# Altium footprint library IM_v1.0.PcbLib: 78 footprints (part 1 of 5)
Each footprint in its own frame and in the unit in brackets; x right, y up, seen from the top. Pads: shape width x height; smd on the part's side, far side on the other; paste and mask are expansions set on the pad; w line width, h text height; cw(c..) or ccw(c..) is an arc to the next point about the centre after c.
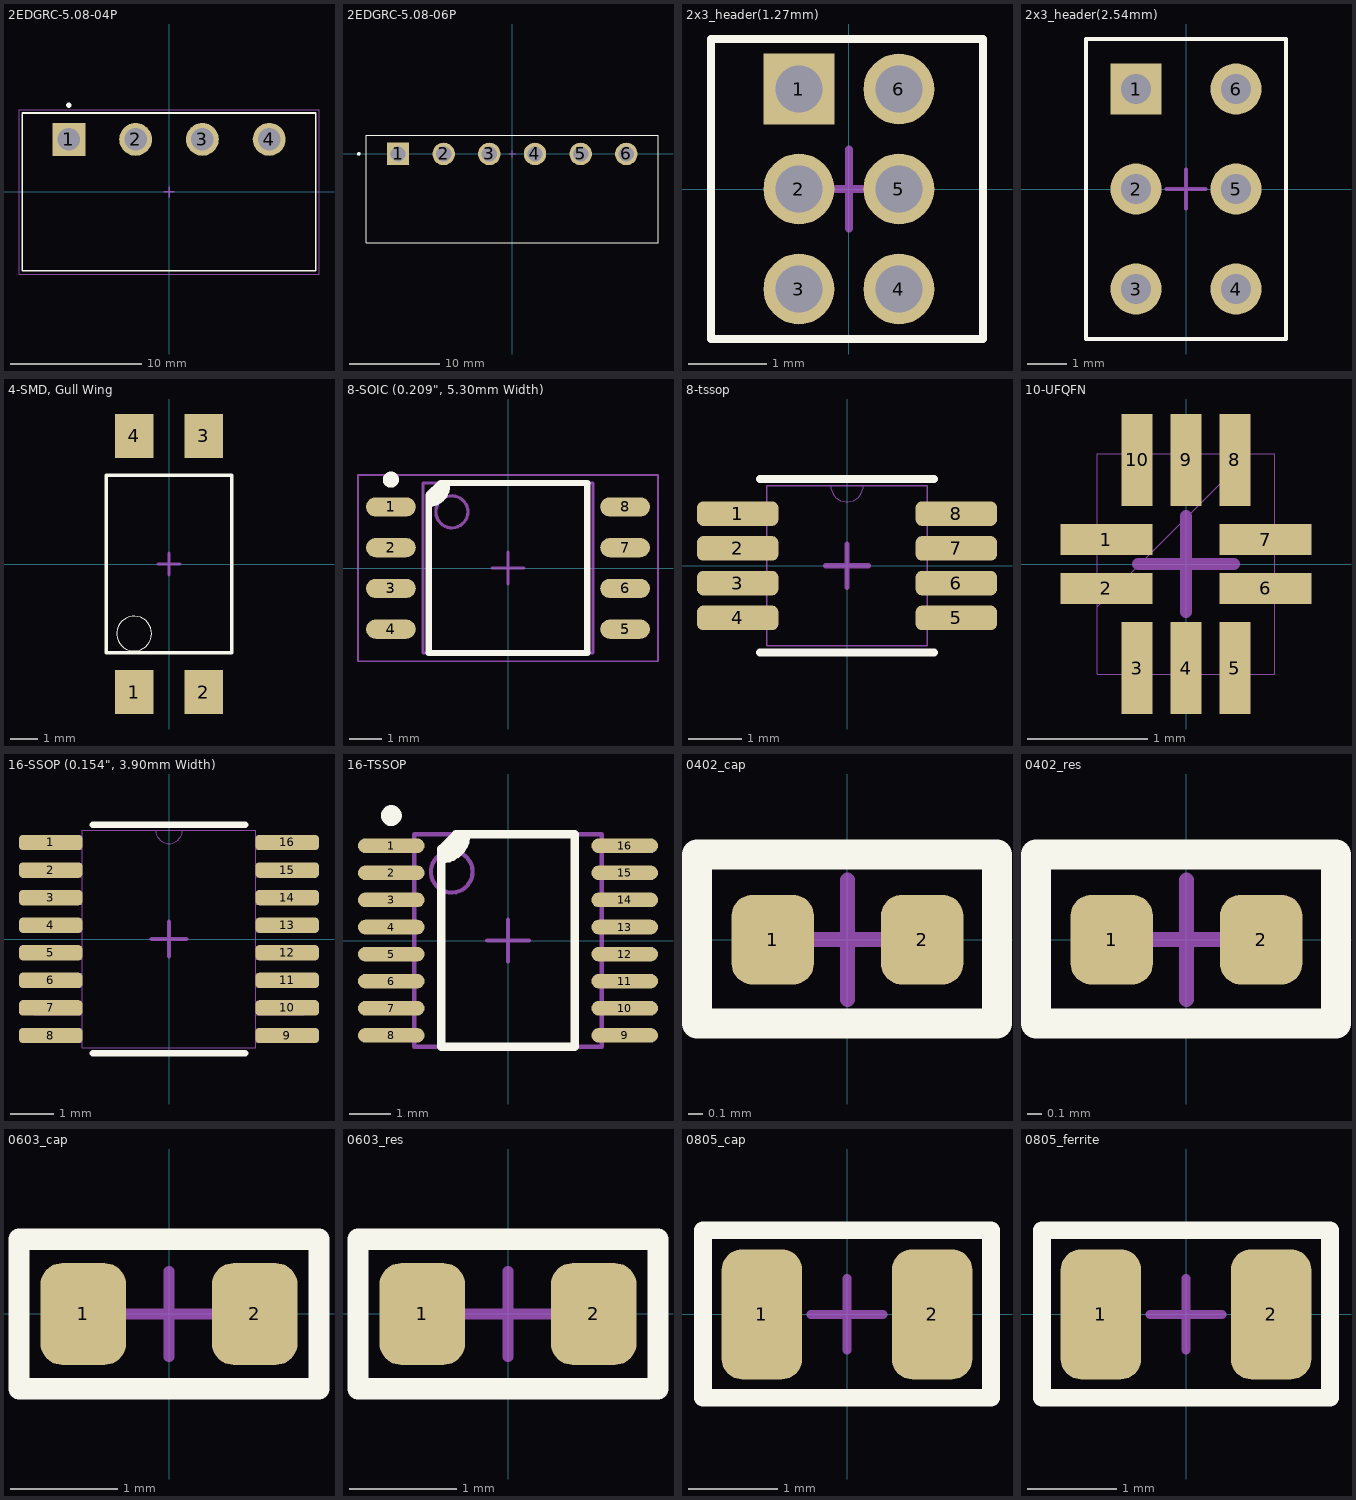
[diagram p0: the footprints below, top view; thin cyan lines are the x and y axes]

## 2EDGRC-5.08-04P [mm]
pads (4):
  rect 2.5x2.5 hole 1.7: 1(-7.62,4)
  round 2.5 hole 1.7: 2(-2.54,4) 3(2.54,4) 4(7.62,4)
Top Overlay:
  circle w0.2: c-7.62,6.6 r0.1
  lines w0.127: -11.16,-6 11.16,-6 11.16,6 -11.16,6 -11.16,-6
Mechanical 7:
  lines w0.05: -11.41,-6.25 11.41,-6.25 11.41,6.25 -11.41,6.25 -11.41,-6.25
  lines w0.1: -0.4,0 0,0 ; 0,-0.4 0,0 ; 0,0.4 0,0 ; 0.4,0 0,0
3D body "2EDGRC-5.08-04P-14-100A&Z(H).stp": height 8.61, standoff -3.09, extent -11.16,-6.031 11.16,5.969

## 2EDGRC-5.08-06P [mm]
pads (6):
  rect 2.5x2.5 hole 1.7: 1(-12.7,0)
  round 2.5 hole 1.7: 2(-7.62,0) 3(-2.54,0) 4(2.54,0) 5(7.62,0) 6(12.7,0)
Top Overlay:
  circle w0.2: c-17.05,0 r0.1
  lines w0.1: -16.256,-9.9 16.224,-9.9 ; -16.256,2.1 16.224,2.1
  lines w0.127: -16.256,-9.9 -16.256,2.1 ; 16.224,-9.9 16.224,2.1
Route Tool Path (Mech13):
  circle w0.2: c-17.05,0 r0.1
Mechanical 7:
  lines w0.1: -0.4,0 0,0 ; 0,-0.4 0,0 ; 0,0.4 0,0 ; 0.4,0 0,0
3D body "2EDGRC-5.08-06P-14-100A&Z(H).stp": height 8.61, standoff -3.09, extent -16.256,-9.9 16.224,2.1

## 2x3_header(1.27mm) [mm]
pads (6):
  rect 0.9x0.9 hole 0.6: 1(-0.635,1.27)
  round 0.9 hole 0.6: 2(-0.635,0) 3(-0.635,-1.27) 4(0.635,-1.27) 5(0.635,0) 6(0.635,1.27)
Top Overlay:
  lines w0.1: -1.75,-1.905 1.7,-1.905 1.7,1.905 -1.75,1.905 -1.75,-1.905
Mechanical 7:
  lines w0.1: -0.5,0 0.5,0 ; 0,-0.5 0,0.5
3D body "HPH2-A-06-UA.STEP": height 4, standoff -2.3, extent -1.75,-1.905 1.7,1.905

## 2x3_header(2.54mm) [mm]
pads (6):
  rect 1.3x1.3 hole 0.762: 1(-1.27,2.54)
  round 1.3 hole 0.762: 2(-1.27,0) 3(-1.27,-2.54) 4(1.27,-2.54) 5(1.27,0) 6(1.27,2.54)
Top Overlay:
  lines w0.1: -2.54,-3.81 -2.54,3.81 2.54,3.81 2.54,-3.81 -2.54,-3.81
Mechanical 7:
  lines w0.1: -0.5,0 0.5,0 ; 0,-0.5 0,0.5
3D body "Download_STP_61300621121_rev1.stp": height 8.57, standoff -2.97, extent -2.54,-3.81 2.54,3.81

## 4-SMD, Gull Wing [mm]
pads (4):
  rect 1.4x1.6 smd: 1(-1.27,-4.68) 2(1.27,-4.68) 3(1.27,4.68) 4(-1.27,4.68)
Top Overlay:
  circle w0: c-1.27,-2.54 r0.635
  lines w0.127: -2.3,-3.25 -2.3,3.25 2.3,3.25 2.3,-3.25 -2.3,-3.25
Mechanical 7:
  lines w0.1: -0.4,0 0,0 ; 0,-0.4 0,0 ; 0,0.4 0,0 ; 0.4,0 0,0
3D body "LTV-816S.STEP": height 4.6, standoff 0, extent -2.3,-5.08 2.3,5.08

## 8-SOIC (0.209", 5.30mm Width) [mm]
height 2.16
pads (8):
  oval 1.55x0.6 smd: 1(-3.65,1.905) 2(-3.65,0.635) 3(-3.65,-0.635) 4(-3.65,-1.905) 5(3.65,-1.905) 6(3.65,-0.635) 7(3.65,0.635) 8(3.65,1.905)
Top Overlay:
  circle w0.25: c-3.65,2.755 r0.125
  region: -2.1,2.65 -1.9,2.65 -1.9,2.575 -1.9,2.461 -1.988,2.249 -2.149,2.088 -2.361,2 -2.475,2 -2.475,2.275
  lines w0.2: -2.475,2 ccw(c-2.475,2.575) -1.9,2.575 ; -2.475,-2.65 2.475,-2.65 2.475,2.65 -2.1,2.65 -2.475,2.275 -2.475,-2.65
Mechanical 13:
  lines w0.1: -2.65,-2.65 2.65,-2.65 2.65,2.65 -2.65,2.65 -2.65,-2.65
Route Tool Path (Mech13):
  circle w0.1: c-1.75,1.75 r0.5
Mechanical 7:
  lines w0.05: -4.675,-2.9 4.675,-2.9 4.675,2.9 -4.675,2.9 -4.675,-2.9
  lines w0.1: -0.5,0 0.5,0 ; 0,-0.5 0,0.5
3D body "SO-8 208mil.STEP": height 1.5, standoff 0, extent -4.014,-2.641 4.014,2.642

## 8-tssop [mil]
pads (8):
  rrect50% 60x18 smd paste+0 mask+0: 1(-80.5,38.39) 2(-80.5,12.8) 3(-80.5,-12.8) 4(-80.5,-38.39) 5(80.5,-38.39) 6(80.5,-12.8) 7(80.5,12.8) 8(80.5,38.39)
Top Overlay:
  lines w6: -64,-64 64,-64 ; -64,64 64,64
Mechanical 13:
  lines w0: -12,59 ccw(c0,59) 12,59
  lines w1: -96.5,-46.39 -96.5,-30.39 -59,-30.39 -59,-46.39 -96.5,-46.39 ; -96.5,-20.8 -59,-20.8 -59,-4.8 -96.5,-4.8 -96.5,-20.8 ; -96.5,4.8 -96.5,20.8 -59,20.8 -59,4.8 -96.5,4.8 ; -96.5,30.39 -96.5,46.39 -59,46.39 -59,30.39 -96.5,30.39 ; -59,-59 59,-59 59,59 -59,59 -59,-59 ; 59,-46.39 96.5,-46.39 96.5,-30.39 59,-30.39 59,-46.39 ; 59,-20.8 59,-4.8 96.5,-4.8 96.5,-20.8 59,-20.8 ; 59,4.8 96.5,4.8 96.5,20.8 59,20.8 59,4.8 ; 59,30.39 59,46.39 96.5,46.39 96.5,30.39 59,30.39
Mechanical 7:
  lines w3.94: -15.75,0 0,0 ; 0,-15.75 0,0 ; 0,15.75 0,0 ; 15.75,0 0,0
3D body "MSOP8_MC_MCH.step": height 43.11, standoff 0, extent -96.5,-59.02 96.5,59.02

## 10-UFQFN [mil]
pads (10):
  rect 30x10 smd: 1(-26,8) 2(-26,-8) 6(26,-8) 7(26,8)
  rect 10x30 smd: 3(-16,-34) 4(0,-34) 5(16,-34) 8(16,34) 9(0,34) 10(-16,34)
Mechanical 13:
  lines w0: -29,-14 21,36 11,36 ; -29,-13 -29,-3 ; -29,3 -29,13 ; -21,-36 -11,-36 ; -21,36 -11,36 ; -5,-36 5,-36 ; -5,36 5,36 ; 11,-36 21,-36 ; 29,-13 29,-3 ; 29,3 29,13 ; -29,-36 29,-36 29,36 -29,36 -29,-36
Mechanical 7:
  lines w3.94: -15.75,0 0,0 ; 0,-15.75 0,0 ; 0,15.75 0,0 ; 15.75,0 0,0
3D body "step_temp.STEP": height 21.65, standoff 0, extent -27.56,-35.43 27.56,35.43

## 16-SSOP (0.154", 3.90mm Width) [mil]
pads (16):
  rrect50% 57.5x14 smd: 1(-107.25,87.5) 2(-107.25,62.5) 3(-107.25,37.5) 4(-107.25,12.5) 5(-107.25,-12.5) 6(-107.25,-37.5) 7(-107.25,-62.5) 8(-107.25,-87.5) 9(107.25,-87.5) 10(107.25,-62.5) 11(107.25,-37.5) 12(107.25,-12.5) 13(107.25,12.5) 14(107.25,37.5) 15(107.25,62.5) 16(107.25,87.5)
Top Overlay:
  lines w6: -68.98,-103.5 68.98,-103.5 ; -68.98,103.5 68.98,103.5
Mechanical 13:
  lines w0: -12,98.5 ccw(c0,98.5) 12,98.5
  lines w1: -122,-93.5 -122,-81.5 -78.5,-81.5 -78.5,-93.5 -122,-93.5 ; -122,-68.5 -78.5,-68.5 -78.5,-56.5 -122,-56.5 -122,-68.5 ; -122,-43.5 -122,-31.5 -78.5,-31.5 -78.5,-43.5 -122,-43.5 ; -122,-18.5 -122,-6.5 -78.5,-6.5 -78.5,-18.5 -122,-18.5 ; -122,6.5 -78.5,6.5 -78.5,18.5 -122,18.5 -122,6.5 ; -122,31.5 -122,43.5 -78.5,43.5 -78.5,31.5 -122,31.5 ; -122,56.5 -122,68.5 -78.5,68.5 -78.5,56.5 -122,56.5 ; -122,81.5 -78.5,81.5 -78.5,93.5 -122,93.5 -122,81.5 ; -78.5,-98.5 -78.5,98.5 78.5,98.5 78.5,-98.5 -78.5,-98.5 ; 78.5,-93.5 122,-93.5 122,-81.5 78.5,-81.5 78.5,-93.5 ; 78.5,-68.5 78.5,-56.5 122,-56.5 122,-68.5 78.5,-68.5 ; 78.5,-43.5 78.5,-31.5 122,-31.5 122,-43.5 78.5,-43.5 ; 78.5,-18.5 78.5,-6.5 122,-6.5 122,-18.5 78.5,-18.5 ; 78.5,6.5 78.5,18.5 122,18.5 122,6.5 78.5,6.5 ; 78.5,31.5 78.5,43.5 122,43.5 122,31.5 78.5,31.5 ; 78.5,56.5 78.5,68.5 122,68.5 122,56.5 78.5,56.5 ; 78.5,81.5 78.5,93.5 122,93.5 122,81.5 78.5,81.5
Mechanical 7:
  lines w3.94: -15.75,0 0,0 ; 0,-15.75 0,0 ; 0,15.75 0,0 ; 15.75,0 0,0
3D body "SSOP16_DBQ_TEX.step": height 69.09, standoff 0, extent -122.01,-98.5 122.01,98.5

## 16-TSSOP [mm] "TSSOP, 16-Leads, Body 5.00x4.40mm, Pitch 0.65mm, IPC Medium Density"
height 1.2
pads (16):
  oval 1.6x0.35 smd: 1(-2.8,2.275) 2(-2.8,1.625) 3(-2.8,0.975) 4(-2.8,0.325) 5(-2.8,-0.325) 6(-2.8,-0.975) 7(-2.8,-1.625) 8(-2.8,-2.275) 9(2.8,-2.275) 10(2.8,-1.625) 11(2.8,-0.975) 12(2.8,-0.325) 13(2.8,0.325) 14(2.8,0.975) 15(2.8,1.625) 16(2.8,2.275)
Top Overlay:
  circle w0.25: c-2.8,3 r0.125
  region: -1.6,1.95 -1.481,1.95 -1.26,2.041 -1.091,2.21 -1,2.431 -1,2.55 -1.3,2.55 -1.6,2.25
  lines w0.2: -1.6,1.95 ccw(c-1.6,2.55) -1,2.55 ; -1.6,-2.55 -1.6,2.2 -1.25,2.55 1.6,2.55 1.6,-2.55 -1.6,-2.55
Mechanical 13:
  lines w0.1: -2.25,-2.55 2.25,-2.55 2.25,2.55 -2.25,2.55 -2.25,-2.55
Route Tool Path (Mech13):
  circle w0.1: c-1.35,1.65 r0.5
Mechanical 7:
  lines w0.1: -0.5,0 0.5,0 ; 0,-0.5 0,0.5
3D body "TSSOP-16-TI-PW.STEP": height 1.2, standoff 0, extent -3.21,-2.5 3.211,2.5

## 0402_cap [mm]
pads (2):
  rrect50% 0.55x0.6 smd: 1(-0.5,0) 2(0.5,0)
Top Overlay:
  lines w0.2: -1.006,-0.562 -1.006,0.571 1.001,0.571 1.001,-0.562 -1.006,-0.562
Mechanical 7:
  lines w0.1: -0.4,0 0,0 ; 0,-0.4 0,0 ; 0,0.4 0,0 ; 0.4,0 0,0
3D body "CAP 0402.STEP": height 0.52, standoff 0, extent -0.5,-0.262 0.5,0.262

## 0402_res [mm]
pads (2):
  rrect50% 0.55x0.6 smd: 1(-0.5,0) 2(0.5,0)
Top Overlay:
  lines w0.2: -1.006,-0.562 -1.006,0.571 1.001,0.571 1.001,-0.562 -1.006,-0.562
Mechanical 7:
  lines w0.1: -0.4,0 0,0 ; 0,-0.4 0,0 ; 0,0.4 0,0 ; 0.4,0 0,0
3D body "RES 0402.STEP": height 0.35, standoff 0, extent -0.5,-0.25 0.5,0.25

## 0603_cap [mm]
pads (2):
  rrect50% 0.8x0.95 smd: 1(-0.8,0) 2(0.8,0)
Top Overlay:
  lines w0.2: -1.4,-0.698 -1.4,0.698 1.4,0.698 1.4,-0.698 -1.4,-0.698
Mechanical 7:
  lines w0.1: -0.4,0 0,0 ; 0,-0.4 0,0 ; 0.4,0 0,0 ; 0,0 0,0.4 0,0
3D body "CAP 0603.STEP": height 0.82, standoff 0, extent -0.8,-0.412 0.8,0.412

## 0603_res [mm]
pads (2):
  rrect50% 0.8x0.95 smd: 1(-0.8,0) 2(0.8,0)
Top Overlay:
  lines w0.2: -1.4,-0.698 1.4,-0.698 1.4,0.698 -1.4,0.698 -1.4,-0.698
Mechanical 7:
  lines w0.1: -0.4,0 0,0 ; 0,-0.4 0,0 ; 0.4,0 0,0 ; 0,0 0,0.4 0,0
3D body "RES 0603.STEP": height 0.45, standoff 0, extent -0.8,-0.4 0.8,0.4

## 0805_cap [mm]
pads (2):
  rrect50% 0.9x1.45 smd: 1(-0.95,0) 2(0.95,0)
Top Overlay:
  lines w0.2: -1.607,-0.932 -1.607,0.94 1.608,0.94 1.608,-0.932 -1.607,-0.932
Mechanical 7:
  lines w0.1: -0.4,0 0,0 ; 0,-0.4 0,0 ; 0.4,0 0,0 ; 0,0 0,0.4 0,0
3D body "CAP 0805.STEP": height 1.27, standoff 0, extent -1,-0.637 1,0.637

## 0805_ferrite [mm]
pads (2):
  rrect50% 0.9x1.45 smd: 1(-0.95,0) 2(0.95,0)
Top Overlay:
  lines w0.2: -1.607,-0.932 1.608,-0.932 1.608,0.94 -1.607,0.94 -1.607,-0.932
Mechanical 7:
  lines w0.1: -0.4,0 0,0 ; 0,-0.4 0,0 ; 0.4,0 0,0 ; 0,0 0,0.4 0,0
3D body "FER 0805.STEP": height 1.26, standoff -0.02, extent -1,-0.637 1,0.637